# Altium schematic symbol library SI8809-MICROFOOT4.Schlib: 1 symbol
Pins are listed as number, name and electrical type; pins without a type are passive.

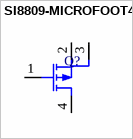
[diagram p0: symbol SI8809-MICROFOOT4]

## SI8809-MICROFOOT4
designator Q?  (value not drawn)
pins: 1 G, 2 S, 3 S, 4 D